# Altium schematic symbol library MAX30100EFD&plus_.SchLib: 2 symbols
Pins are listed as number, name and electrical type; pins without a type are passive.

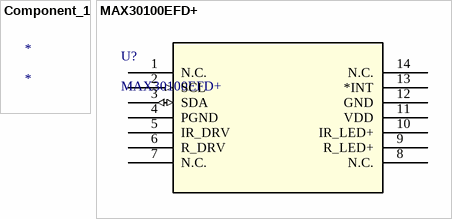
[diagram p0: symbols Component_1 to MAX30100EFD+]

## Component_1
designator *

## MAX30100EFD+
designator U?
No Description Available; Mfr_Name: Maxim Integrated Products; Copyright: Copyright (C) 2022 Ultra Librarian. All rights reserved.; Manufacturer_Part_Number: MAX30100EFD+; RefDes: RefDes; Type: DEV
footprint 21-0880B_MXM
pins: 1 N.C., 2 SCL (in), 3 SDA (io), 4 PGND (power), 5 IR_DRV, 6 R_DRV, 7 N.C., 8 N.C., 9 R_LED+, 10 IR_LED+, 11 VDD (power), 12 GND (power), 13 *INT, 14 N.C.